# EAGLE library part LPC812M101 (library nxp_60)
32-bit ARM Cortex-M0+ microcontroller The LPC81xM are an ARM Cortex-M0+ based, low-cost 32-bit MCU family operating at CPU frequencies of up to 30 MHz. The LPC81xM support up to 16 kB of flash memory and 4 kB of SRAM. The peripheral complement of the LPC81xM includes a CRC engine, one I 2 C-bus interface, up to three USARTs, up to two SPI interfaces, one multi-rate timer, self wake-up timer, and state-configurable timer, one comparator, function-configurable I/O ports through a switch matrix, an input pattern match engine, and up to 18 general-purpose I/O pins. AAL Eindhoven MK
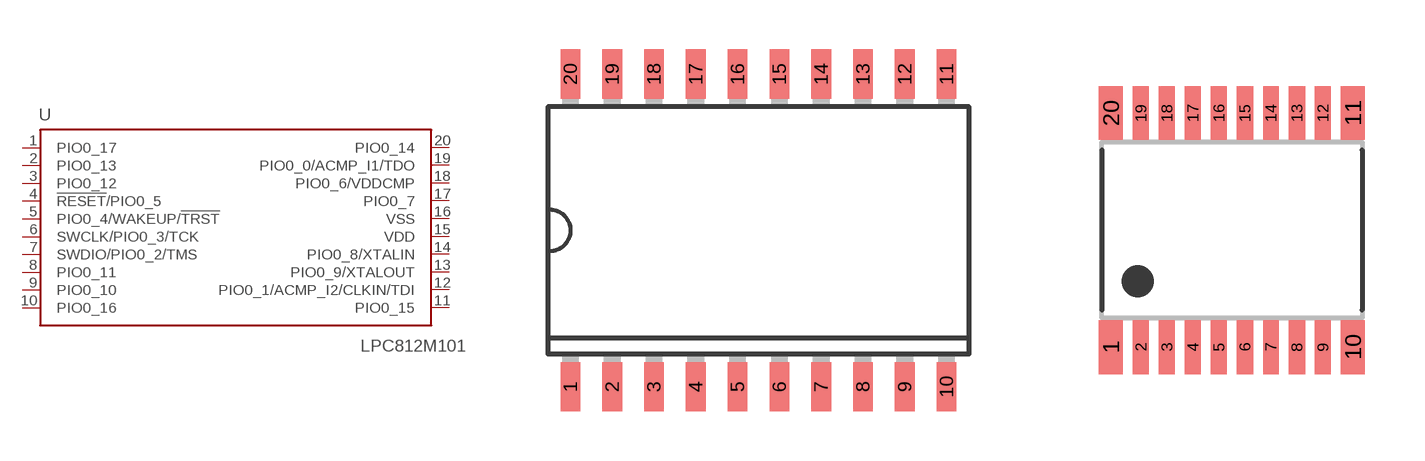
[diagram p131: symbol with the pads of SOT163-1; footprints SOT163-1, SOT360]

Designator prefix U

## LPC812M101FD20 (COMP: 1; FLASH: 16k; GPIO: 18; I2C: 1; SPI: 1; SRAM: 4k; USART: 2)  [SOT163-1]
1  PIO0_17
2  PIO0_13
3  PIO0_12
4  !RESET!/PIO0_5
5  PIO0_4/WAKEUP/!TRST!
6  SWCLK/PIO0_3/TCK
7  SWDIO/PIO0_2/TMS
8  PIO0_11
9  PIO0_10
10  PIO0_16
11  PIO0_15
12  PIO0_1/ACMP_I2/CLKIN/TDI
13  PIO0_9/XTALOUT
14  PIO0_8/XTALIN
15  VDD  pwr
16  VSS  pwr
17  PIO0_7
18  PIO0_6/VDDCMP
19  PIO0_0/ACMP_I1/TDO
20  PIO0_14

## LPC812M101FDH20 (COMP: 1; FLASH: 16k; GPIO: 18; I2C: 1; SPI: 2; SRAM: 4k; USART: 3)  [SOT360]
Pads as for SOT163-1

## Footprint SOT163-1 (pad centres in mm)
SOT163-1 SO20: plastic small outline package; 20 leads; body width 7.5 mm JEDEC: MS-013 IEC: 075E04
smd 0.6 x 1.5: 1 -5.715,-4.75; 2 -4.445,-4.75; 3 -3.175,-4.75; 4 -1.905,-4.75; 5 -0.635,-4.75; 6 0.635,-4.75; 7 1.905,-4.75; 8 3.175,-4.75; 9 4.445,-4.75; 10 5.715,-4.75; 11 5.715,4.75; 12 4.445,4.75; 13 3.175,4.75; 14 1.905,4.75; 15 0.635,4.75; 16 -0.635,4.75; 17 -1.905,4.75; 18 -3.175,4.75; 19 -4.445,4.75; 20 -5.715,4.75

## Footprint SOT360 (pad centres in mm)
SOT360 TSSOP20: plastic thin shrink small outline package; 20 leads; body width 4.4 mm JEDEC: MO-153 IEC:
smd 0.6 x 1.35: 1 -3.025,-2.925; 10 3.025,-2.925; 11 3.025,2.925; 20 -3.025,2.925
smd 0.4 x 1.35: 2 -2.275,-2.925; 3 -1.625,-2.925; 4 -0.975,-2.925; 5 -0.325,-2.925; 6 0.325,-2.925; 7 0.975,-2.925; 8 1.625,-2.925; 9 2.275,-2.925; 12 2.275,2.925; 13 1.625,2.925; 14 0.975,2.925; 15 0.325,2.925; 16 -0.325,2.925; 17 -0.975,2.925; 18 -1.625,2.925; 19 -2.275,2.925